# Altium schematic symbol library MAX40203AUK+T.SchLib: 1 symbol
Pins are listed as number, name and electrical type; pins without a type are passive.

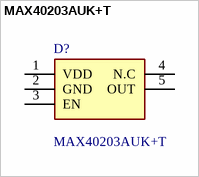
[diagram p0: symbol MAX40203AUK+T]

## MAX40203AUK+T
designator D?
MAXIM INTEGRATED PRODUCTS - MAX40203AUK+T - IDEAL DIODE CURRENT SW, -40 TO 125DEG C; Manufacturer_Name: Analog Devices; Geometry.Height: 1.45mm; Manufacturer_Part_Number: MAX40203AUK+T; Mouser Part Number: 700-MAX40203AUK+T; Mouser Price/Stock: https://www.mouser.co.uk/ProductDetail/Analog-Devices-Maxim-Integrated/MAX40203AUK%2bT?qs=l7cgNqFNU1j1dlDj29Iz0A%3D%3D; Arrow Part Number: MAX40203AUK+T; Arrow Price/Stock: https://www.arrow.com/en/products/max40203aukt/analog-devices?utm_currency=USD&region=nac; Datasheet Link: http://www.mouser.com/datasheet/2/256/MAX40203-1517812.pdf
footprint SOT95P280X145-5N
pins: 1 VDD (power), 2 GND, 3 EN, 4 N.C, 5 OUT